# Altium schematic symbol library NUCLEOG431RB-Custom-IN-A2212.SchLib: 66 symbols (part 1 of 2)
Pins are listed as number, name and electrical type; pins without a type are passive.

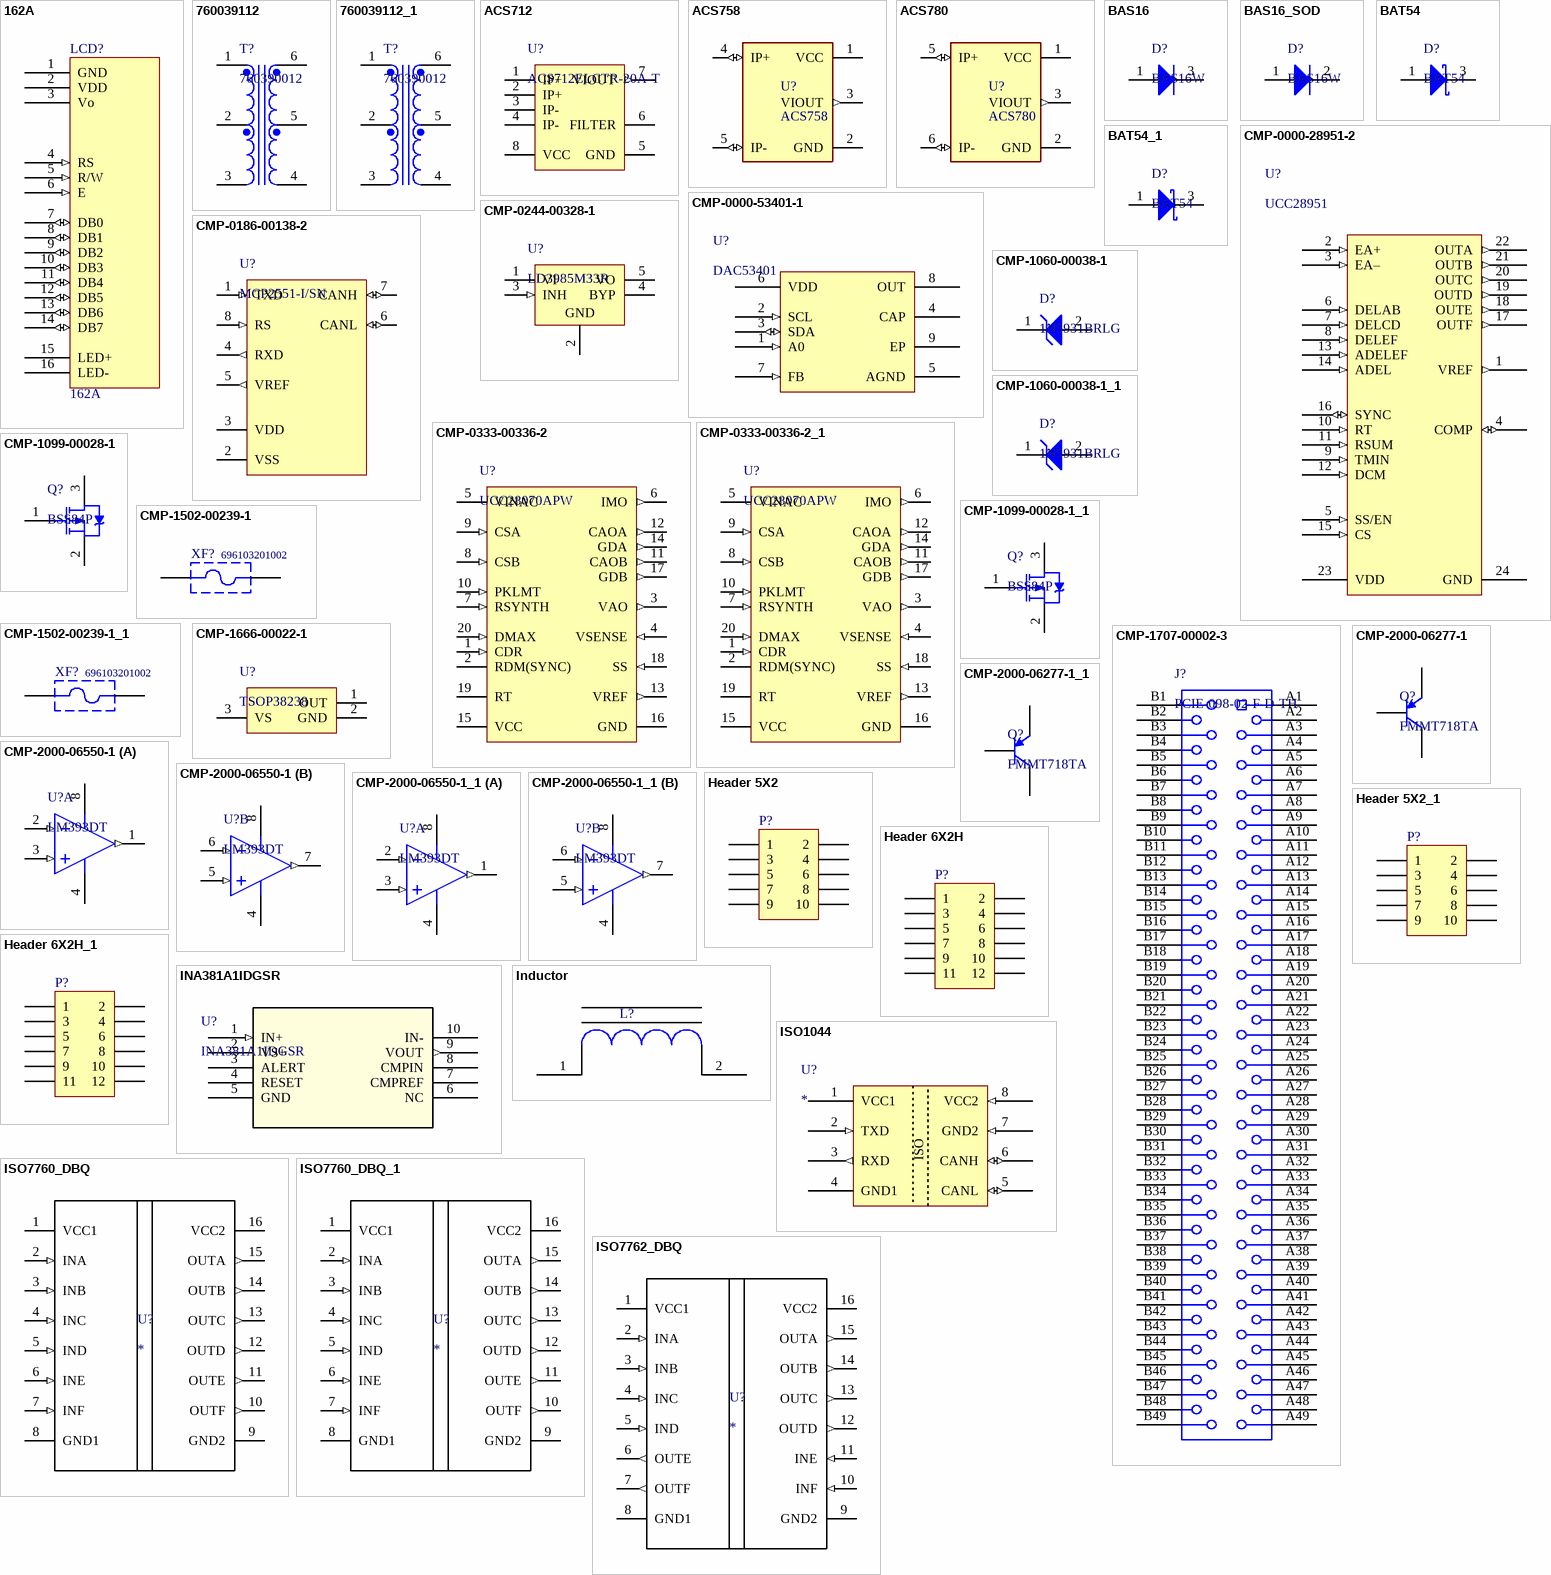
[diagram p0: symbols 162A to ISO7762_DBQ]

## 162A
designator LCD?
16 char * 2 line LCD character display with b/light
footprint 162A
pins: 1 GND (power) "VSS - 0V", 2 VDD (power) "VDD - 5V", 3 Vo (hiz) "Input Voltage For LCD", 4 RS (in) "H = Data Signal, L = Instrunction Signal", 5 R/W (in) "H = Read Mode, L = Write Mode", 6 E (in) "Chip Enable (H, H->L)", 7 DB0 (io) "Chip Enable (H, H->L)", 8 DB1 (io) "Chip Enable (H, H->L)", 9 DB2 (io) "Chip Enable (H, H->L)", 10 DB3 (io) "Chip Enable (H, H->L)", 11 DB4 (io) "Chip Enable (H, H->L)", 12 DB5 (io) "Chip Enable (H, H->L)", 13 DB6 (io) "Chip Enable (H, H->L)", 14 DB7 (io) "Chip Enable (H, H->L)", 15 LED+ (power) "LED Backlight +", 16 LED- (power) "LED Backlight -"

## 760039112
designator T?, comment 760390012
Transformer, 150 mA, -40 to 125 degC, 6-Pin SMD, RoHS, Tape and Reel; Manufacturer: Wuerth Elektronik; Mounting Technology: SurfaceMount; Manufacturer URL: https://www.we-online.com/; Datasheet Version: Rev. 6C, 06/2013; Datasheet URL: https://datasheet.ciiva.com/12335/760390012-221167-12335394.pdf; Package Description: 6-Pin Surface Mount Device, Body 7.14 x 6.73 mm, Pitch 2.54 mm; Package Reference: 7060390012-6
footprint WE-760390012-6_V (SMD, 6-Leads, Body 7.14x6.73mm, Pitch 2.54mm)
pins: 1, 2, 3, 4, 5, 6

## 760039112_1
designator T?, comment 760390012
Transformer, 150 mA, -40 to 125 degC, 6-Pin SMD, RoHS, Tape and Reel; Manufacturer: Wuerth Elektronik; Mounting Technology: SurfaceMount; Manufacturer URL: https://www.we-online.com/; Datasheet Version: Rev. 6C, 06/2013; Datasheet URL: https://datasheet.ciiva.com/12335/760390012-221167-12335394.pdf; Package Description: 6-Pin Surface Mount Device, Body 7.14 x 6.73 mm, Pitch 2.54 mm; Package Reference: 7060390012-6
footprint WE-760390012-6_V (SMD, 6-Leads, Body 7.14x6.73mm, Pitch 2.54mm)
pins: 1, 2, 3, 4, 5, 6

## ACS712
designator U?, comment ACS712ELCTR-20A-T
Linear Current Sensor IC, 4.5 to 5.5 V Supply Voltage, 10 mA Supply Current, -40 to 85 degC, 8-Pin SOIC (LC), RoHS, Tape and Reel; Manufacturer: Allegro Microsystems; CLOAD: 10 nF Max.; ICC: 10 mA; F: 80 kHz; RLOAD: 4.7 kOhm Min.; Optimized Accuracy Range: +/- 20 A; TR: 3.5 us; Sensitivity Sens: 100 mV/A Typ.; Operating Temperature Range: -40 to 85 degC; ComponentLink2URL: http://www.allegromicro.com/~/media/Files/Datasheets/ACS712-Datasheet.ashx; ComponentLink1Description: Manufacturer URL; VCC: 4.5 to 5.5 V; Mounting Technology: Surface Mount; DatasheetVersion: Rev. 15; ComponentLink2Description: Datasheet; ComponentLink1URL: http://www.allegromicro.com/; PackageDescription: 8-Pin SOIC, Body 4.9 x 3.9 mm, Pitch 1.27 mm; PackageReference: LC-8; RoHS: TRUE; Packing: Tape and Reel; PartNumber: ACS712ELCTR-20A-T
pins: 1 IP+ "Terminals for current being sampled; fused internally", 2 IP+ "Terminals for current being sampled; fused internally", 3 IP- "Terminals for current being sampled; fused internally", 4 IP- "Terminals for current being sampled; fused internally", 5 GND (power) "Signal ground terminal", 6 FILTER "Terminal for external capacitor that sets bandwidth", 7 VIOUT (out) "Analog output signal", 8 VCC (power) "Device power supply terminal"

## ACS758
designator U?
Current Sensor 50A 1 Channel Hall Effect, Open Loop Unidirectional 5-CB Formed Leads, PFF; MF: Allegro MicroSystems LLC; Package: 5-CB-5 Allegro MicroSystems LLC; MP: ACS758; Availability: Unavailable; Price: None; Value: *; SnapEDA_Link: https://www.snapeda.com/parts/ACS758/Allegro%20MicroSystems%20LLC/view-part/226237/?ref=snap
footprint XDCR_ACS758
pins: 1 VCC (power), 2 GND (power), 3 VIOUT (out), 4 IP+ (io), 5 IP- (io)

## ACS780
designator U?
Current Sensor 50A 1 Channel Hall Effect, Open Loop Unidirectional 5-CB Formed Leads, PFF; MP: ACS758; MF: Allegro MicroSystems LLC; Package: 5-CB-5 Allegro MicroSystems LLC; Availability: Unavailable; Price: None; Value: *; SnapEDA_Link: https://www.snapeda.com/parts/ACS758/Allegro%20MicroSystems%20LLC/view-part/226237/?ref=snap
footprint *XDCR_ACS781LLRTR-100U-T
pins: 1 VCC (power), 2 GND (power), 3 VIOUT (out), 5 IP+ (io), 6 IP- (io)

## BAS16
designator D?, comment BAS16W
Silicon Switching Diode, SOT323, Reel, Green; Manufacturer: Infineon; IR (max): 100Â nA; Configuration: Single; VBR (min): 85Â V; VR (max): 80Â V; trr (max): 4Â ns; Green: TRUE; VF (max): 1.25Â V; IF (max): 250Â mA; Mounting Technology: Surface Mount; PackageReference: SOT323; ComponentLink2URL: http://www.infineon.com/dgdl/bas16series.pdf?folderId=db3a30431400ef6801141b5844e103ea&fileId=db3a30431400ef6801141b93811b03ff; Halogen-free: TRUE; ComponentLink2Description: Datasheet; PartNumber: BAS16W; ComponentLink1Description: Manufacturer URL; ComponentLink3URL: http://www.infineon.com/dgdl/SOT323-Package_Overview.pdf?folderId=db3a30431936bc4b0119533e1dcb3c92&fileId=db3a30431936bc4b011953495f283cb1; ComponentLink1URL: http://www.infineon.com/; PackageDescription: 3-Pin Small Outline Transistor Package, 1.25 x 2 mm Body, 0.65 mm Pitch; ComponentLink3Description: Package Specification
footprint SOT95P278X110-3N (SOT23, 3-Leads, Body 2.90x2.78mm, Pitch 0.95mm, IPC Medium Density)
pins: 1 A, 3 K

## BAS16_SOD
designator D?, comment BAS16W
Silicon Switching Diode, SOT323, Reel, Green; Manufacturer: Infineon; IR (max): 100Â nA; Configuration: Single; VBR (min): 85Â V; VR (max): 80Â V; trr (max): 4Â ns; Green: TRUE; VF (max): 1.25Â V; IF (max): 250Â mA; Mounting Technology: Surface Mount; PackageReference: SOT323; ComponentLink2URL: http://www.infineon.com/dgdl/bas16series.pdf?folderId=db3a30431400ef6801141b5844e103ea&fileId=db3a30431400ef6801141b93811b03ff; Halogen-free: TRUE; ComponentLink2Description: Datasheet; PartNumber: BAS16W; ComponentLink1Description: Manufacturer URL; ComponentLink3URL: http://www.infineon.com/dgdl/SOT323-Package_Overview.pdf?folderId=db3a30431936bc4b0119533e1dcb3c92&fileId=db3a30431936bc4b011953495f283cb1; ComponentLink1URL: http://www.infineon.com/; PackageDescription: 3-Pin Small Outline Transistor Package, 1.25 x 2 mm Body, 0.65 mm Pitch; ComponentLink3Description: Package Specification
footprint SODFL250X110-2N (SODFL, 2-Leads, Body 1.30x2.50mm, IPC Medium Density)
pins: 1 A, 2 K

## BAT54
designator D?
Silicon Switching Diode, SOT323, Reel, Green; PartNumber: BAS16W; Manufacturer: Infineon; IR (max): 100Â nA; Configuration: Single; VBR (min): 85Â V; VR (max): 80Â V; trr (max): 4Â ns; Green: TRUE; VF (max): 1.25Â V; IF (max): 250Â mA; Mounting Technology: Surface Mount; PackageReference: SOT323; ComponentLink2URL: http://www.infineon.com/dgdl/bas16series.pdf?folderId=db3a30431400ef6801141b5844e103ea&fileId=db3a30431400ef6801141b93811b03ff; Halogen-free: TRUE; ComponentLink2Description: Datasheet; ComponentLink1Description: Manufacturer URL; ComponentLink3URL: http://www.infineon.com/dgdl/SOT323-Package_Overview.pdf?folderId=db3a30431936bc4b0119533e1dcb3c92&fileId=db3a30431936bc4b011953495f283cb1; ComponentLink1URL: http://www.infineon.com/; PackageDescription: 3-Pin Small Outline Transistor Package, 1.25 x 2 mm Body, 0.65 mm Pitch; ComponentLink3Description: Package Specification
footprint SOT95P278X110-3N (SOT23, 3-Leads, Body 2.90x2.78mm, Pitch 0.95mm, IPC Medium Density)
pins: 1 A, 3 K

## BAT54_1
designator D?, comment BAT54
Silicon Switching Diode, SOT323, Reel, Green; PartNumber: BAS16W; Manufacturer: Infineon; IR (max): 100Â nA; Configuration: Single; VBR (min): 85Â V; VR (max): 80Â V; trr (max): 4Â ns; Green: TRUE; VF (max): 1.25Â V; IF (max): 250Â mA; Mounting Technology: Surface Mount; PackageReference: SOT323; ComponentLink2URL: http://www.infineon.com/dgdl/bas16series.pdf?folderId=db3a30431400ef6801141b5844e103ea&fileId=db3a30431400ef6801141b93811b03ff; Halogen-free: TRUE; ComponentLink2Description: Datasheet; ComponentLink1Description: Manufacturer URL; ComponentLink3URL: http://www.infineon.com/dgdl/SOT323-Package_Overview.pdf?folderId=db3a30431936bc4b0119533e1dcb3c92&fileId=db3a30431936bc4b011953495f283cb1; ComponentLink1URL: http://www.infineon.com/; PackageDescription: 3-Pin Small Outline Transistor Package, 1.25 x 2 mm Body, 0.65 mm Pitch; ComponentLink3Description: Package Specification
footprint SOT95P278X110-3N (SOT23, 3-Leads, Body 2.90x2.78mm, Pitch 0.95mm, IPC Medium Density)
pins: 1 A, 3 K

## CMP-0000-28951-2
designator U?, comment UCC28951
UCC28951 Phase-Shifted Full-Bridge Controller / for Wide Input-Voltage Range Applications; ComponentLink1Description: Datasheet; ComponentLink1URL: https://www.ti.com/lit/ds/symlink/ucc28951.pdf?ts=1588485726454
footprint TSOP65P640X120_HS-25N (TSOP, 24-Leads, Body 7.80x4.40mm, Pitch 0.65mm, Thermal Pad 5.00x2.00mm, IPC Medium Density)
pins: 1 VREF (out), 2 EA+ (in), 3 EA– (in), 4 COMP (io), 5 SS/EN (in), 6 DELAB (in), 7 DELCD (in), 8 DELEF (in), 9 TMIN (in), 10 RT (in), 11 RSUM (in), 12 DCM (in), 13 ADELEF (in), 14 ADEL (in), 15 CS (in), 16 SYNC (io), 17 OUTF (out), 18 OUTE (out), 19 OUTD (out), 20 OUTC (out), 21 OUTB (out), 22 OUTA (out), 23 VDD (power), 24 GND (power)

## CMP-0000-53401-1
designator U?, comment DAC53401
DACx3401 10-Bit and 8-Bit, Voltage-Output Digital-to-Analog Converters With Nonvolatile / Memory and PMBus™ Compatible I2C Interface
footprint SON50P200X80_HS-9N (SON, 8-Leads, Body 2.00x2.00mm, Pitch 0.50mm, Thermal Pad 1.61x0.89mm, IPC Medium Density)
pins: 1 A0 (in), 2 SCL (in), 3 SDA (io), 4 CAP, 5 AGND, 6 VDD, 7 FB (in), 8 OUT, 9 EP

## CMP-0186-00138-2
designator U?, comment MCP2551-I/SN
High-Speed CAN Transceiver, 8-Pin SOIC, Industrial Temperature; Code_JEDEC: MS-012; ComponentLink3URL: http://www.microchip.com/stellent/groups/techpub_sg/documents/packagingspec/en012702.pdf; DatasheetVersion: revF, Jul-2010; PackageVersion: revBB, Aug-2009; PackageDescription: 8-Lead Plastic Small Outline (SN) - Narrow, 3.90mm Body [SOIC]; ComponentLink1URL: http://www.microchip.com/; ComponentLink3Description: Package Specification; ComponentLink2Description: Datasheet; Code_IPC: SOIC127P600-8; ComponentLink1Description: Manufacturer URL; PackageReference: SOIC-SN8; ComponentLink2URL: http://ww1.microchip.com/downloads/en/DeviceDoc/21667F.pdf; RevisionNote: URLs added. DatasheetVersion updated.
footprint SOIC127P570X175_HS-9N - No Thermal (SOIC, 8-Leads, Body 4.91x3.90mm, Pitch 1.27mm, Thermal Pad 3.00x3.00mm, IPC Medium Density)
pins: 1 TXD (in), 2 VSS (power), 3 VDD (power), 4 RXD (out), 5 VREF (out), 6 CANL (io), 7 CANH (io), 8 RS (in)

## CMP-0244-00328-1
designator U?, comment LD3985M33R
150mA, Ultra-Low Drop Low Noise BiCMOS Voltage Regulators Low ESR Capacitors Compatible, 3.3V, 5-Pin SOT23-5L; ComponentLink1Description: Manufacturer URL; ComponentLink2URL: http://www.st.com/internet/com/TECHNICAL_RESOURCES/TECHNICAL_LITERATURE/DATASHEET/CD00003395.pdf; PackageReference: SOT23-5L; ComponentLink1URL: http://www.st.com; ComponentLink2Description: Datasheet; PackageVersion: 1/01/2008; PackageDescription: 5-Pin SOT-23 Package, 2.9 x 1.6 mm Body, 0.95 mm Pitch, 2.8 mm Lead Span; DatasheetVersion: 3/01/2011
footprint SOT95P278X110-5N (SOT23, 5-Leads, Body 2.90x2.78mm, Pitch 0.95mm, IPC Medium Density)
pins: 1 VI (power), 2 GND (power), 3 INH (in), 4 BYP, 5 VO (power)

## CMP-0333-00336-2
designator U?, comment UCC28070APW
Two-Phase Interleaved CCM PFC Controller with Extended Frequency Range (10 kHz to 300 kHz), 21 V, 20 mA Startup Current, -40 to 125 degC, 20-pin TSSOP (PW), Green (RoHS & no Sb/Br); Manufacturer: Texas Instruments; UVLO Thresholds On/Off(V): 10.2/9.2; Practical Operating Frequency(Max)(MHz): 0.3; Vref(V): 6; Average Current Mode: TRUE; Operating Supply(Max)(V): 21; Duty Cycle(Max)(%): 99; Rating: Catalog; Vref tol(%): 3; Operating Supply Current(mA): 20; PackageReference: PW0020A; PartNumber: UCC28070APW; ComponentLink1URL: http://www.ti.com/general/docs/lit/getliterature.tsp?genericPartNumber=UCC28070A&fileType=pdf; Eco-Plan: Green (RoHS & no Sb/Br); Mounting Technology: Surface Mount; PackageVersion: revG, Feb-2011; ComponentLink1Description: Datasheet; Interleaved: TRUE; Code_JEDEC: MO-153; > 750W Applications: TRUE; PackageDescription: 20-Pin Plastic Thin Small Outline Package 6.5 x 4.4 mm Body ,0.65 mm Pitch; Startup Current(mA): 20; OVP: TRUE; DatasheetVersion: SLUSAW0
footprint TSOP65P640X120_HS-21N (TSOP, 20-Leads, Body 6.50x4.40mm, Pitch 0.65mm, Thermal Pad 5.00x2.00mm, IPC Medium Density)
pins: 1 CDR (in) "Dither Rate Capacitor. Frequency-dithering timing pin.An external capacitor to GND programs the rate fo oscillator dither.Connect the CDR pin to the VREF pin to disable dithering.", 2 RDM(SYNC) "Dither Magnitude Resistor. Frequency-dithering magnitude and external synchronization pin. An external resistor to GND programs the magnitude of oscillator frequency dither.When frequency dithering is disabled (CDR > 5 (See Datasheet)", 3 VAO (out) "Voltage Amplifier Output. Output of transconductance voltage error amplifier. Internally connected to Multiplier input and Zero-Power comparator. Connect the voltage regulation loop compensation components between this pin (See Datasheet)", 4 VSENSE (in) "Output Voltage Sense. Internally connected to the inverting input of the transconductance voltage error amplifier in addition to the positive terminal of the Current Synthesis difference amplifer.Also connected to the (See Datasheet)", 5 VINAC (power) "Scaled AC Line Input Voltage. Internally connected to the Multiplier and negative terminal of the Current Synthesis difference amplifier. Connect a resistor-divider network between VIN, VINAC, and GND identical to the PFC (See Datasheet)", 6 IMO (out) "Multiplier Current Output. Connect a resistor between this pin and GND to set the multiplier gain.", 7 RSYNTH (in) "Current Synthesis Down-Slope Programming. Connect a resistor between this pin and GND to set the magnitude of the current synthesizer down-slope. Connecting RSYNTH to VREF will disable current synthesis and connect CSA and (See Datasheet)", 8 CSB (in) "Phase B Current Sense Input During the on-time of GDB,CSB is internally connected to the inverting input of Phase B'S current amplifier through the current synthesis stage.", 9 CSA (in) "Phase A Current Sense Input During the on-time of GDA,CSA is internally connected to the inverting input of Phase A'S current amplifier through the current synthesis stage.", 10 PKLMT (in) "Peak Current Limit Programming. Connect a resistor-divider network between VREF and this pin to set the voltage threshold of the cycle-by-cycle peak current limiting comparators. Allows adjustment for desired deltaILB.", 11 CAOB (out) "Phase B Current Amplifier Output. Output of phase B’s transconductance current amplifier.Internally connected to the inverting input of phase B's PWM comparator for trailing-edge modulation .Connect the current regulation (See Datasheet)", 12 CAOA (out) "Phase A Current Amplifier Output. Output of phase A’s transconductance current amplifier.Internally connected to the inverting input of phase A's PWM comparator for trailing-edge modulation .Connect the current regulation (See Datasheet)", 13 VREF (out) "6-V Reference Voltage and Internal Bias Voltage.Connect a 0.1-uF ceramic bypass capacitor as close as possible to this pin and GND.", 14 GDA (out) "Phase A’s Gate Drive. This limited-current output is intended to connect to a separate gate-drive  device suitable for driving the Phase A switching component(s). The output voltage is typically clamped to 13.5 V.", 15 VCC (power) "Bias Voltage Input. Connect a 0.1-uF ceramic bypass capacitor as close as possible to this pin and GND.", 16 GND (power) "Device Ground Reference. Connect all compensation and programming resistor and capacitor networks to this pin. Connect this pin to the system through a separate trace for high-current noise isolation.", 17 GDB (out) "Phase B’s Gate Drive. This limited-current output is intended to connect to a separate gate- drivedevice suitable for driving the Phase B switching component(s). The output voltage is typically clamped to 13.5 V.", 18 SS (in) "Soft-Start and External Fault Interface. Connect a capacitor to GND on this pin to set the softstart slew rate based on an internally-fixed 10-uA current source. The regulation reference voltage for VSENSE is clamped to VSS (See Datasheet)", 19 RT "Timing Resistor.Oscillator frequency programming pin. A resistor to GND sets the running frequency of the internal oscillator.", 20 DMAX (in) "Maximum Duty-Cycle Resistor.Maximum PWM duty-cycle programming pin.A resister to GND sets the PWM maximum duty-cycle based on the ratio of RDMX/RRT."

## CMP-0333-00336-2_1
designator U?, comment UCC28070APW
Two-Phase Interleaved CCM PFC Controller with Extended Frequency Range (10 kHz to 300 kHz), 21 V, 20 mA Startup Current, -40 to 125 degC, 20-pin TSSOP (PW), Green (RoHS & no Sb/Br); Manufacturer: Texas Instruments; UVLO Thresholds On/Off(V): 10.2/9.2; Practical Operating Frequency(Max)(MHz): 0.3; Vref(V): 6; Average Current Mode: TRUE; Operating Supply(Max)(V): 21; Duty Cycle(Max)(%): 99; Rating: Catalog; Vref tol(%): 3; Operating Supply Current(mA): 20; PackageReference: PW0020A; PartNumber: UCC28070APW; ComponentLink1URL: http://www.ti.com/general/docs/lit/getliterature.tsp?genericPartNumber=UCC28070A&fileType=pdf; Eco-Plan: Green (RoHS & no Sb/Br); Mounting Technology: Surface Mount; PackageVersion: revG, Feb-2011; ComponentLink1Description: Datasheet; Interleaved: TRUE; Code_JEDEC: MO-153; > 750W Applications: TRUE; PackageDescription: 20-Pin Plastic Thin Small Outline Package 6.5 x 4.4 mm Body ,0.65 mm Pitch; Startup Current(mA): 20; OVP: TRUE; DatasheetVersion: SLUSAW0
footprint TSOP65P640X120_HS-21N (TSOP, 20-Leads, Body 6.50x4.40mm, Pitch 0.65mm, Thermal Pad 5.00x2.00mm, IPC Medium Density)
pins: 1 CDR (in) "Dither Rate Capacitor. Frequency-dithering timing pin.An external capacitor to GND programs the rate fo oscillator dither.Connect the CDR pin to the VREF pin to disable dithering.", 2 RDM(SYNC) "Dither Magnitude Resistor. Frequency-dithering magnitude and external synchronization pin. An external resistor to GND programs the magnitude of oscillator frequency dither.When frequency dithering is disabled (CDR > 5 (See Datasheet)", 3 VAO (out) "Voltage Amplifier Output. Output of transconductance voltage error amplifier. Internally connected to Multiplier input and Zero-Power comparator. Connect the voltage regulation loop compensation components between this pin (See Datasheet)", 4 VSENSE (in) "Output Voltage Sense. Internally connected to the inverting input of the transconductance voltage error amplifier in addition to the positive terminal of the Current Synthesis difference amplifer.Also connected to the (See Datasheet)", 5 VINAC (power) "Scaled AC Line Input Voltage. Internally connected to the Multiplier and negative terminal of the Current Synthesis difference amplifier. Connect a resistor-divider network between VIN, VINAC, and GND identical to the PFC (See Datasheet)", 6 IMO (out) "Multiplier Current Output. Connect a resistor between this pin and GND to set the multiplier gain.", 7 RSYNTH (in) "Current Synthesis Down-Slope Programming. Connect a resistor between this pin and GND to set the magnitude of the current synthesizer down-slope. Connecting RSYNTH to VREF will disable current synthesis and connect CSA and (See Datasheet)", 8 CSB (in) "Phase B Current Sense Input During the on-time of GDB,CSB is internally connected to the inverting input of Phase B'S current amplifier through the current synthesis stage.", 9 CSA (in) "Phase A Current Sense Input During the on-time of GDA,CSA is internally connected to the inverting input of Phase A'S current amplifier through the current synthesis stage.", 10 PKLMT (in) "Peak Current Limit Programming. Connect a resistor-divider network between VREF and this pin to set the voltage threshold of the cycle-by-cycle peak current limiting comparators. Allows adjustment for desired deltaILB.", 11 CAOB (out) "Phase B Current Amplifier Output. Output of phase B’s transconductance current amplifier.Internally connected to the inverting input of phase B's PWM comparator for trailing-edge modulation .Connect the current regulation (See Datasheet)", 12 CAOA (out) "Phase A Current Amplifier Output. Output of phase A’s transconductance current amplifier.Internally connected to the inverting input of phase A's PWM comparator for trailing-edge modulation .Connect the current regulation (See Datasheet)", 13 VREF (out) "6-V Reference Voltage and Internal Bias Voltage.Connect a 0.1-uF ceramic bypass capacitor as close as possible to this pin and GND.", 14 GDA (out) "Phase A’s Gate Drive. This limited-current output is intended to connect to a separate gate-drive  device suitable for driving the Phase A switching component(s). The output voltage is typically clamped to 13.5 V.", 15 VCC (power) "Bias Voltage Input. Connect a 0.1-uF ceramic bypass capacitor as close as possible to this pin and GND.", 16 GND (power) "Device Ground Reference. Connect all compensation and programming resistor and capacitor networks to this pin. Connect this pin to the system through a separate trace for high-current noise isolation.", 17 GDB (out) "Phase B’s Gate Drive. This limited-current output is intended to connect to a separate gate- drivedevice suitable for driving the Phase B switching component(s). The output voltage is typically clamped to 13.5 V.", 18 SS (in) "Soft-Start and External Fault Interface. Connect a capacitor to GND on this pin to set the softstart slew rate based on an internally-fixed 10-uA current source. The regulation reference voltage for VSENSE is clamped to VSS (See Datasheet)", 19 RT "Timing Resistor.Oscillator frequency programming pin. A resistor to GND sets the running frequency of the internal oscillator.", 20 DMAX (in) "Maximum Duty-Cycle Resistor.Maximum PWM duty-cycle programming pin.A resister to GND sets the PWM maximum duty-cycle based on the ratio of RDMX/RRT."

## CMP-1060-00038-1
designator D?, comment 1N5931BRLG
3 W Zener Voltage Regulator, 2-Pin Axial_Lead, Pb-Free, Tape and Reel; Manufacturer: On Semiconductor; VZ Typ (V): 18; DatasheetVersion: Rev. 5; PackageVersion: Rev. U, 02/2005; ComponentLink1URL: http://www.onsemi.com/; PartNumber: 1N5931BRLG; ComponentLink3URL: http://www.onsemi.cn/pub_link/Collateral/59-10.PDF; RoHS: Pb-Free; Packing: Tape and Reel; ComponentLink3Description: Package Specification; ComponentLink1Description: Manufacturer URL; PackageReference: AXIAL_LEAD-2-59-10; PackageDescription: 2-Pin, Axial Lead, Diameter 2.35 mm; ComponentLink2URL: http://www.onsemi.cn/pub_link/Collateral/1N5913B-D.PDF; ComponentLink2Description: Datasheet; Mounting Technology: Through Hole
footprint ONSC-AXIAL_LEAD-2-59-10_P (AXIAL, 2-Leads, Diameter 2.35mm)
pins: 1 K, 2 A

## CMP-1060-00038-1_1
designator D?, comment 1N5931BRLG
3 W Zener Voltage Regulator, 2-Pin Axial_Lead, Pb-Free, Tape and Reel; Manufacturer: On Semiconductor; VZ Typ (V): 18; DatasheetVersion: Rev. 5; PackageVersion: Rev. U, 02/2005; ComponentLink1URL: http://www.onsemi.com/; PartNumber: 1N5931BRLG; ComponentLink3URL: http://www.onsemi.cn/pub_link/Collateral/59-10.PDF; RoHS: Pb-Free; Packing: Tape and Reel; ComponentLink3Description: Package Specification; ComponentLink1Description: Manufacturer URL; PackageReference: AXIAL_LEAD-2-59-10; PackageDescription: 2-Pin, Axial Lead, Diameter 2.35 mm; ComponentLink2URL: http://www.onsemi.cn/pub_link/Collateral/1N5913B-D.PDF; ComponentLink2Description: Datasheet; Mounting Technology: Through Hole
footprint ONSC-AXIAL_LEAD-2-59-10_P (AXIAL, 2-Leads, Diameter 2.35mm)
pins: 1 K, 2 A

## CMP-1099-00028-1
designator Q?, comment BSS84P
P-Channel SIPMOS Small-Signal-Transistor, -60 V VDS, -0.17 A ID, -55 to 150 degC, PG-SOT23, Reel, Green; Manufacturer: Infineon; VGS(th) (max): -2Â V; VGS(th) (min): -1Â V; VDS (max): -60Â V; Rth: 350Â K/W; Pto t (max): 0.36Â W; ID (max): -0.17Â A; IDpuls (max): -0.68Â A; RDS (on) (max) (@4.5V): 12,000Â mOhm; QG: 1Â nC; Green: TRUE; RDS (on) (max): 8,000Â mOhm; ComponentLink3URL: http://www.infineon.com/dgdl/SOT23-Package_Overview.pdf?folderId=db3a30431936bc4b0119532290053c66&fileId=db3a30431936bc4b0119533468123c85; ComponentLink3Description: Package Specification; Packing: Reel; PartNumber: BSS84P; ComponentLink2Description: Datasheet; Mounting Technology: Surface Mount; ComponentLink2URL: http://www.infineon.com/dgdl/BSS84P_Rev2.7%5B1%5D.pdf?folderId=db3a304314dca38901154a72e3951a65&fileId=db3a304330f68606013118ac7a9b4549; PackageReference: PG-SOT23; ComponentLink1URL: http://www.infineon.com/; PackageVersion: Apr-08; ComponentLink1Description: Manufacturer URL; PackageDescription: 3-Pin Small Outline Transistor Package, 2.9 x 1.3 mm Body, 0.95 mm Pitch; Halogen-free: TRUE; DatasheetVersion: Rev. 2.7
footprint SOT95P278X110-3N (SOT23, 3-Leads, Body 2.90x2.78mm, Pitch 0.95mm, IPC Medium Density)
pins: 1 GATE, 2 SOURCE, 3 DRAIN

## CMP-1099-00028-1_1
designator Q?, comment BSS84P
P-Channel SIPMOS Small-Signal-Transistor, -60 V VDS, -0.17 A ID, -55 to 150 degC, PG-SOT23, Reel, Green; Manufacturer: Infineon; VGS(th) (max): -2Â V; VGS(th) (min): -1Â V; VDS (max): -60Â V; Rth: 350Â K/W; Pto t (max): 0.36Â W; ID (max): -0.17Â A; IDpuls (max): -0.68Â A; RDS (on) (max) (@4.5V): 12,000Â mOhm; QG: 1Â nC; Green: TRUE; RDS (on) (max): 8,000Â mOhm; ComponentLink3URL: http://www.infineon.com/dgdl/SOT23-Package_Overview.pdf?folderId=db3a30431936bc4b0119532290053c66&fileId=db3a30431936bc4b0119533468123c85; ComponentLink3Description: Package Specification; Packing: Reel; PartNumber: BSS84P; ComponentLink2Description: Datasheet; Mounting Technology: Surface Mount; ComponentLink2URL: http://www.infineon.com/dgdl/BSS84P_Rev2.7%5B1%5D.pdf?folderId=db3a304314dca38901154a72e3951a65&fileId=db3a304330f68606013118ac7a9b4549; PackageReference: PG-SOT23; ComponentLink1URL: http://www.infineon.com/; PackageVersion: Apr-08; ComponentLink1Description: Manufacturer URL; PackageDescription: 3-Pin Small Outline Transistor Package, 2.9 x 1.3 mm Body, 0.95 mm Pitch; Halogen-free: TRUE; DatasheetVersion: Rev. 2.7
footprint SOT95P278X110-3N (SOT23, 3-Leads, Body 2.90x2.78mm, Pitch 0.95mm, IPC Medium Density)
pins: 1 GATE, 2 SOURCE, 3 DRAIN

## CMP-1502-00239-1
designator XF?, comment 696103201002
WR-FSH Fuse Holder Blocks Fuse Holder Blocks Clip Cover for PCB - THR Version; Manufacturer: Wurth Elektronik; Fuse Size: 5x20mm; Package Reference: 696103201002; Operating Temperature: -30to120degC; Part Number: 696103201002; Packaging: Box; Datasheet URL: https://katalog.we-online.de/em/datasheet/696103201002.pdf; Publisher: WurthElektronik; Mounting Technology: THR; Manufacturer URL: http://www.we-online.de
footprint 696103201002 (FUSEHOLDER BLOCKS - PCB - CLIP COVER - THR)
pins: 1, 2

## CMP-1502-00239-1_1
designator XF?, comment 696103201002
WR-FSH Fuse Holder Blocks Fuse Holder Blocks Clip Cover for PCB - THR Version; Manufacturer: Wurth Elektronik; Fuse Size: 5x20mm; Package Reference: 696103201002; Operating Temperature: -30to120degC; Part Number: 696103201002; Packaging: Box; Datasheet URL: https://katalog.we-online.de/em/datasheet/696103201002.pdf; Publisher: WurthElektronik; Mounting Technology: THR; Manufacturer URL: http://www.we-online.de
footprint 696103201002 (FUSEHOLDER BLOCKS - PCB - CLIP COVER - THR)
pins: 1, 2

## CMP-1666-00022-1
designator U?, comment TSOP38238
IR Receiver Modules for Remote Control System, 2.5 to 5.5 V, -25 to 85 degC, 3-Pin THD, RoHS, Bulk; Tolerance: 30ppm; ESR: 40 Ohm; Capacitance: 1.8E-11 f; Frequency: 24 MHz; Load Capacitance: 18 pF; DatasheetVersion: Rev. 1.5, 07/2016; REACH SVHC: No SVHC; Frequency Tolerance: 30ppm; ComponentLink2URL: http://www.vishay.com/docs/82491/tsop382.pdf; Mount: Surface Mount; Length: 0.197 inch; Min Operating Temperature: -20degC; Packaging: Tape and Reel; ComponentLink1URL: http://www.vishay.com/; Width: 0.126 inch; Height: 0.041 inch; PackageDescription: 3-Pin Through Hole Device, Body 5.00 x 4.80 mm, Pitch 2.54 mm; Max Operating Temperature: 70degC; Pins: 4; RoHSCompliant: True; Package Quantity: 1000; PackageReference: VISH-TSOP38238; ComponentLink2Description: Datasheet; ComponentLink1Description: Manufacturer URL; Resistance: 40 Ohm
footprint VISH-TSOP38238 (TH, 3-Leads, Body 5.00x4.80mm, Pitch 2.54mm)
pins: 1 OUT (power), 2 GND (power), 3 VS (power)

## CMP-1707-00002-3
designator J?, comment PCIE-098-02-F-D-TH
Female Header, Pitch 1 mm, 98 Positions, 4 Rows, Height 11 mm, Tail Length 2.31 mm, -55 to 125 degC, RoHS; ComponentLink1Description: Manufacturer URL; Pins: 98; Length: 56 mm; ComponentLink2URL: http://suddendocs.samtec.com/catalog_english/pcie.pdf; PackageDescription: Female Header, Pitch 1 mm, 98 Positions, 4 Rows, Height 11 mm, Tail Length 2.31 mm; Mounting Technology: Through Hole; Packaging: Rail/Tube; Min Operating Temperature: -55 degC; ComponentLink3Description: Package Specification; Max Operating Temperature: 125 degC; Height: 11 mm; RoHSCompliant: True; REACH SVHC: No SVHC; ComponentLink2Description: Datasheet; ComponentLink3URL: http://suddendocs.samtec.com/prints/pcie-xxx-02-x-d-th-footprint.pdf; PartNumber: PCIE-098-02-F-D-TH; Mount: Through Hole; ComponentLink1URL: http://www.samtec.com/; Width: 7.5 mm; Radiation Hardening: No; DatasheetVersion: Rev. 21JAN16
footprint SMTC-PCIE-098-02-F-D-TH_V (TH, 98-Leads, Body 56x8.61mm, Pitch 1mm)
footprint Edge
pins: A1, A2, A3, A4, A5, A6, A7, A8, A9, A10, A11, A12, A13, A14, A15, A16, A17, A18, A19, A20, A21, A22, A23, A24, A25, A26, A27, A28, A29, A30, A31, A32, A33, A34, A35, A36, A37, A38, A39, A40, A41, A42, A43, A44, A45, A46, A47, A48, A49, B1, B2, B3, B4, B5, B6, B7, B8, B9, B10, B11, B12, B13, B14, B15, B16, B17, B18, B19, B20, B21, B22, B23, B24, B25, B26, B27, B28, B29, B30, B31, B32, B33, B34, B35, B36, B37, B38, B39, B40, B41, B42, B43, B44, B45, B46, B47, B48, B49

## CMP-2000-06277-1
designator Q?, comment FMMT718TA
PNP Silicon Low Saturation Transistor, 20 V, -55 to 150 degC, 3-Pin SOT23, RoHS, Tape and Reel; Manufacturer: Diodes Inc; Current Ic Continuous a Max: 1.5A; DC Current Gain hFE: 475; Current Ic hFE: 100mA; No. of Pins: 3; Turn On Time: 40ns; Voltage Vcbo: 20V; SVHC: NoSVHC(18-Jun-2012); Reel Quantity: 3000; Transistor Case Style: SOT-23; No. of Transistors: 1; SMD Marking: 718; Collector Emitter Voltage Vces: 220mV; Turn Off Time: 670ns; Power Dissipation Pd: 625mW; Transition Frequency Typ ft: 180MHz; Device Marking: MT718; Hfe Min: 300; Gain Bandwidth ft Min: 150MHz; Datasheet URL: http://www.diodes.com/_files/datasheets/FMMT718.pdf; Datasheet Version: Rev. 4-2, 10/2012; Termination Type: SMD; Package Description: 3-Pin Small Outline Transistor, Body 2.9 x 1.3 mm, Pitch 0.96 mm; Manufacturer URL: http://www.diodes.com/; Package Reference: SOT23-3; Package / Case: SOT-23; Continuous Collector Current Ic Max: 1.5A; Collector Emitter Voltage V(br)ceo: 20V; Operating Temperature Range: -55°Cto+150°C; Mounting Technology: SurfaceMount; DC Collector Current: 1.5A; Gain Bandwidth ft Typ: 180MHz; Tape Width: 8mm; Power Dissipation Ptot Max: 625mW; Transistor Polarity: PNP
footprint DIOD-SOT23-3_D_V (SOT23, 3-Leads, Body 3x1.40mm, Pitch 0.95mm)
pins: 1 B, 2 E, 3 C

## CMP-2000-06277-1_1
designator Q?, comment FMMT718TA
PNP Silicon Low Saturation Transistor, 20 V, -55 to 150 degC, 3-Pin SOT23, RoHS, Tape and Reel; Manufacturer: Diodes Inc; Current Ic Continuous a Max: 1.5A; DC Current Gain hFE: 475; Current Ic hFE: 100mA; No. of Pins: 3; Turn On Time: 40ns; Voltage Vcbo: 20V; SVHC: NoSVHC(18-Jun-2012); Reel Quantity: 3000; Transistor Case Style: SOT-23; No. of Transistors: 1; SMD Marking: 718; Collector Emitter Voltage Vces: 220mV; Turn Off Time: 670ns; Power Dissipation Pd: 625mW; Transition Frequency Typ ft: 180MHz; Device Marking: MT718; Hfe Min: 300; Gain Bandwidth ft Min: 150MHz; Datasheet URL: http://www.diodes.com/_files/datasheets/FMMT718.pdf; Datasheet Version: Rev. 4-2, 10/2012; Termination Type: SMD; Package Description: 3-Pin Small Outline Transistor, Body 2.9 x 1.3 mm, Pitch 0.96 mm; Manufacturer URL: http://www.diodes.com/; Package Reference: SOT23-3; Package / Case: SOT-23; Continuous Collector Current Ic Max: 1.5A; Collector Emitter Voltage V(br)ceo: 20V; Operating Temperature Range: -55°Cto+150°C; Mounting Technology: SurfaceMount; DC Collector Current: 1.5A; Gain Bandwidth ft Typ: 180MHz; Tape Width: 8mm; Power Dissipation Ptot Max: 625mW; Transistor Polarity: PNP
footprint DIOD-SOT23-3_D_V (SOT23, 3-Leads, Body 3x1.40mm, Pitch 0.95mm)
pins: 1 B, 2 E, 3 C

## CMP-2000-06550-1
designator U?, comment LM393DT
Low-Power, Dual-Voltage Comparator, 2 to 36 V, 0 to 70 degC, 8-Pin SOIC (SO), RoHS, Tape and Reel; Manufacturer: STMicroelectronics; Voltage - Supply, Single/Dual (±): 2V~36V,±1V~18V; Current - Input Bias (Max): 0.25µA@5V; Number of Elements: 2; Current - Output (Typ): 18mA@5V; Other Names: 497-1593-2; Voltage - Input Offset (Max): 5mV@30V; Output Type: CMOS,DTL,ECL,MOS,Open-Collector,TTL; EDA / CAD Models: DownloadfromAcceleratedDesigns; Other Related Documents: LM393ViewAllSpecificationsLM393ViewAllSpecifications; Online Catalog: Comparators-2elements; Current - Quiescent (Max): 2.5mA; Standard Package: 2,500; Manufacturer URL: http://www.st.com/; Package Description: 8-Pin Small Outline Integrated Circuit, Body 4.9 x 3.9 mm, Pitch 1.27 mm; Packaging: Tape&Reel(TR); Datasheet Version: Rev. 15, 02/2016; Category: IntegratedCircuits(ICs); Operating Temperature: 0°C~70°C; Mounting Type: SurfaceMount; Supplier Device Package: 8-SO; Datasheet URL: http://www.st.com/content/ccc/resource/technical/document/datasheet/group1/b4/cc/cf/13/18/28/44/f5/CD00000465/files/CD00000465.pdf/jcr:content/translations/en.CD00000465.pdf; Family: Linear-Comparators; Mounting Technology: SurfaceMount; Type: GeneralPurpose; Package Reference: SO-8; Package / Case: 8-SOIC(0.154",3.90mmWidth)
footprint SOIC127P570X175_HS-9N - No Thermal (SOIC, 8-Leads, Body 4.91x3.90mm, Pitch 1.27mm, Thermal Pad 3.00x3.00mm, IPC Medium Density)
pins on every part: 4 VCC- (power), 8 VCC+ (power)
part A pins: 1 OUT1 (out), 2 IN1- (in), 3 IN1+ (in)
part B pins: 5 IN2+ (in), 6 IN2- (in), 7 OUT2 (out)

## CMP-2000-06550-1_1
designator U?, comment LM393DT
Low-Power, Dual-Voltage Comparator, 2 to 36 V, 0 to 70 degC, 8-Pin SOIC (SO), RoHS, Tape and Reel; Manufacturer: STMicroelectronics; Voltage - Supply, Single/Dual (±): 2V~36V,±1V~18V; Current - Input Bias (Max): 0.25µA@5V; Number of Elements: 2; Current - Output (Typ): 18mA@5V; Other Names: 497-1593-2; Voltage - Input Offset (Max): 5mV@30V; Output Type: CMOS,DTL,ECL,MOS,Open-Collector,TTL; EDA / CAD Models: DownloadfromAcceleratedDesigns; Other Related Documents: LM393ViewAllSpecificationsLM393ViewAllSpecifications; Online Catalog: Comparators-2elements; Current - Quiescent (Max): 2.5mA; Standard Package: 2,500; Manufacturer URL: http://www.st.com/; Package Description: 8-Pin Small Outline Integrated Circuit, Body 4.9 x 3.9 mm, Pitch 1.27 mm; Packaging: Tape&Reel(TR); Datasheet Version: Rev. 15, 02/2016; Category: IntegratedCircuits(ICs); Operating Temperature: 0°C~70°C; Mounting Type: SurfaceMount; Supplier Device Package: 8-SO; Datasheet URL: http://www.st.com/content/ccc/resource/technical/document/datasheet/group1/b4/cc/cf/13/18/28/44/f5/CD00000465/files/CD00000465.pdf/jcr:content/translations/en.CD00000465.pdf; Family: Linear-Comparators; Mounting Technology: SurfaceMount; Type: GeneralPurpose; Package Reference: SO-8; Package / Case: 8-SOIC(0.154",3.90mmWidth)
footprint SOIC127P570X175_HS-9N - No Thermal (SOIC, 8-Leads, Body 4.91x3.90mm, Pitch 1.27mm, Thermal Pad 3.00x3.00mm, IPC Medium Density)
pins on every part: 4 VCC- (power), 8 VCC+ (power)
part A pins: 1 OUT1 (out), 2 IN1- (in), 3 IN1+ (in)
part B pins: 5 IN2+ (in), 6 IN2- (in), 7 OUT2 (out)

## Header 5X2
designator P?
Header, 5-Pin, Dual row; LatestRevisionDate: 17-Jul-2002; LatestRevisionNote: Re-released for DXP Platform.; Publisher: Altium Limited
footprint Stackable_5_2 (Pin Header, pitch 2.54 mm, THT, Vertical, dual row, 10p)
pins: 1, 2, 3, 4, 5, 6, 7, 8, 9, 10

## Header 5X2_1
designator P?
Header, 5-Pin, Dual row; LatestRevisionDate: 17-Jul-2002; LatestRevisionNote: Re-released for DXP Platform.; Publisher: Altium Limited
footprint Stackable_5_2 (Pin Header, pitch 2.54 mm, THT, Vertical, dual row, 10p)
pins: 1, 2, 3, 4, 5, 6, 7, 8, 9, 10

## Header 6X2H
designator P?
Header, 6-Pin, Dual row, Right Angle; LatestRevisionDate: 17-Jul-2002; LatestRevisionNote: Re-released for DXP Platform.; Publisher: Altium Limited
footprint Stackable-20mm (Pin Header, pitch 2.54 mm, THT, Vertical, dual row, 12p)
pins: 1, 2, 3, 4, 5, 6, 7, 8, 9, 10, 11, 12

## Header 6X2H_1
designator P?
Header, 6-Pin, Dual row, Right Angle; LatestRevisionDate: 17-Jul-2002; LatestRevisionNote: Re-released for DXP Platform.; Publisher: Altium Limited
footprint 61301221121 (Pin Header, pitch 2.54 mm, THT, Vertical, dual row, 12p)
pins: 1, 2, 3, 4, 5, 6, 7, 8, 9, 10, 11, 12

## INA381A1IDGSR
designator U?
No Description Available; SourceLibrary: Texas_Instruments_2020-07-20; Built_By: EMA_Matt; Vendor: Texas Instruments; Datasheet: https://www.ti.com/lit/ds/symlink/ina381.pdf?ts=1595282869145&ref_url=https%253A%252F%252Fwww.ti.com%252Fstore%252Fti%252Fen%252Fp%252Fproduct%252F%253Fp%253DINA381A1IDGSR; Copyright: Copyright (C) 2018 Accelerated Designs. All rights reserved; Manufacturer_Part_Number: INA381A1IDGSR; RefDes: RefDes; Type: DEV
footprint TSSOP50P490X110-10N (TSSOP, 10-Leads, Body 3.00x3.00mm, Pitch 0.50mm, IPC Medium Density)
pins: 1 IN+ (in), 2 VS+, 3 ALERT, 4 RESET, 5 GND, 6 NC, 7 CMPREF, 8 CMPIN, 9 VOUT (out), 10 IN-

## Inductor
designator L?  (value not drawn)
footprint SRR1260
footprint Inductor 25mm
pins: 1, 2

## ISO1044
designator U?
Isolated FD CAN Transreciever
footprint SOIC127P570X175_HS-9N - No Thermal (SOIC, 8-Leads, Body 4.91x3.90mm, Pitch 1.27mm, Thermal Pad 3.00x3.00mm, IPC Medium Density)
pins: 1 VCC1 (power), 2 TXD (in), 3 RXD (out), 4 GND1 (power), 5 CANL (io), 6 CANH (io), 7 GND2 (in), 8 VCC2 (in)
text: ISO

## ISO7760_DBQ
designator U?
No Description Available; Manufacturer: Texas Instruments; PartNumber: ISO7760DBQR; RefDes: RefDes; Type: DEV; Value: Value; Copyright: Copyright (C) 2018 Accelerated Designs. All rights reserved
footprint TSOP65P640X120_HS-21N (TSOP, 20-Leads, Body 6.50x4.40mm, Pitch 0.65mm, Thermal Pad 5.00x2.00mm, IPC Medium Density)
pins: 1 VCC1 (power), 2 INA (in), 3 INB (in), 4 INC (in), 5 IND (in), 6 INE (in), 7 INF (in), 8 GND1 (power), 9 GND2 (power), 10 OUTF (out), 11 OUTE (out), 12 OUTD (out), 13 OUTC (out), 14 OUTB (out), 15 OUTA (out), 16 VCC2 (power)

## ISO7760_DBQ_1
designator U?
No Description Available; Manufacturer: Texas Instruments; PartNumber: ISO7760DBQR; RefDes: RefDes; Type: DEV; Value: Value; Copyright: Copyright (C) 2018 Accelerated Designs. All rights reserved
footprint TSOP65P640X120_HS-21N (TSOP, 20-Leads, Body 6.50x4.40mm, Pitch 0.65mm, Thermal Pad 5.00x2.00mm, IPC Medium Density)
pins: 1 VCC1 (power), 2 INA (in), 3 INB (in), 4 INC (in), 5 IND (in), 6 INE (in), 7 INF (in), 8 GND1 (power), 9 GND2 (power), 10 OUTF (out), 11 OUTE (out), 12 OUTD (out), 13 OUTC (out), 14 OUTB (out), 15 OUTA (out), 16 VCC2 (power)

## ISO7762_DBQ
designator U?
No Description Available; PartNumber: ISO7762DWR; Manufacturer: Texas Instruments; RefDes: RefDes; Type: DEV; Value: Value; Copyright: Copyright (C) 2018 Accelerated Designs. All rights reserved
footprint TSOP65P640X120_HS-21N (TSOP, 20-Leads, Body 6.50x4.40mm, Pitch 0.65mm, Thermal Pad 5.00x2.00mm, IPC Medium Density)
pins: 1 VCC1 (power), 2 INA (in), 3 INB (in), 4 INC (in), 5 IND (in), 6 OUTE (out), 7 OUTF (out), 8 GND1 (power), 9 GND2 (power), 10 INF (in), 11 INE (in), 12 OUTD (out), 13 OUTC (out), 14 OUTB (out), 15 OUTA (out), 16 VCC2 (power)

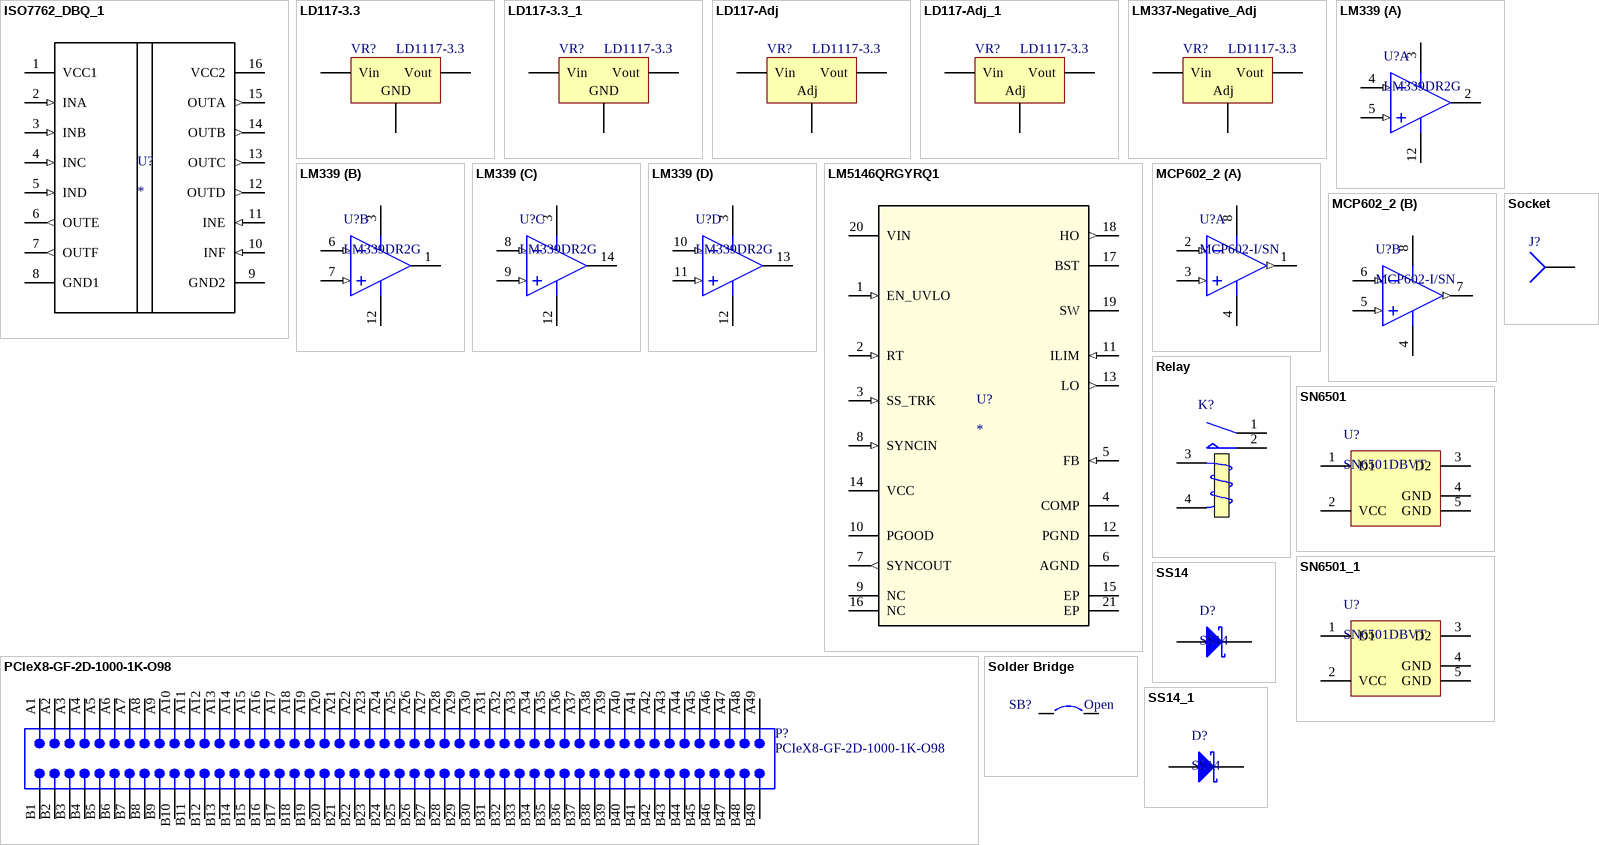
[diagram p1: symbols ISO7762_DBQ_1 to SS14_1]

## ISO7762_DBQ_1
designator U?
No Description Available; PartNumber: ISO7762DWR; Manufacturer: Texas Instruments; RefDes: RefDes; Type: DEV; Value: Value; Copyright: Copyright (C) 2018 Accelerated Designs. All rights reserved
footprint TSOP65P640X120_HS-21N (TSOP, 20-Leads, Body 6.50x4.40mm, Pitch 0.65mm, Thermal Pad 5.00x2.00mm, IPC Medium Density)
pins: 1 VCC1 (power), 2 INA (in), 3 INB (in), 4 INC (in), 5 IND (in), 6 OUTE (out), 7 OUTF (out), 8 GND1 (power), 9 GND2 (power), 10 INF (in), 11 INE (in), 12 OUTD (out), 13 OUTC (out), 14 OUTB (out), 15 OUTA (out), 16 VCC2 (power)

## LD117-3.3
designator VR?, comment LD1117-3.3
Voltage Regulator; Published: 24-Mar-1999; LatestRevisionDate: 29-May-2009; LatestRevisionNote: IPC-7351 Footprint Added.; PackageReference: D2PAK; Publisher: Altium Limited; PackageDescription: 3-Pin Transistor Outline Package 2.54 mm Pitch, 15.1 mm Lead Span
footprint SOT230P700X180-4N (SOT223, 4-Leads, Body 6.50x7.00mm (avg), Pitch 2.30mm, IPC Medium Density)
pins: 1 GND, 2 Vout, 3 Vin

## LD117-3.3_1
designator VR?, comment LD1117-3.3
Voltage Regulator; Published: 24-Mar-1999; LatestRevisionDate: 29-May-2009; LatestRevisionNote: IPC-7351 Footprint Added.; PackageReference: D2PAK; Publisher: Altium Limited; PackageDescription: 3-Pin Transistor Outline Package 2.54 mm Pitch, 15.1 mm Lead Span
footprint SOT230P700X180-4N (SOT223, 4-Leads, Body 6.50x7.00mm (avg), Pitch 2.30mm, IPC Medium Density)
pins: 1 GND, 2 Vout, 3 Vin

## LD117-Adj
designator VR?, comment LD1117-3.3
Voltage Regulator; Published: 24-Mar-1999; LatestRevisionDate: 29-May-2009; LatestRevisionNote: IPC-7351 Footprint Added.; PackageReference: D2PAK; Publisher: Altium Limited; PackageDescription: 3-Pin Transistor Outline Package 2.54 mm Pitch, 15.1 mm Lead Span
footprint SOT230P700X180-4N (SOT223, 4-Leads, Body 6.50x7.00mm (avg), Pitch 2.30mm, IPC Medium Density)
pins: 1 Adj, 2 Vout, 3 Vin

## LD117-Adj_1
designator VR?, comment LD1117-3.3
Voltage Regulator; Published: 24-Mar-1999; LatestRevisionDate: 29-May-2009; LatestRevisionNote: IPC-7351 Footprint Added.; PackageReference: D2PAK; Publisher: Altium Limited; PackageDescription: 3-Pin Transistor Outline Package 2.54 mm Pitch, 15.1 mm Lead Span
footprint SOT230P700X180-4N (SOT223, 4-Leads, Body 6.50x7.00mm (avg), Pitch 2.30mm, IPC Medium Density)
pins: 1 Adj, 2 Vout, 3 Vin

## LM337-Negative_Adj
designator VR?, comment LD1117-3.3
Voltage Regulator; Published: 24-Mar-1999; LatestRevisionDate: 29-May-2009; LatestRevisionNote: IPC-7351 Footprint Added.; PackageReference: D2PAK; Publisher: Altium Limited; PackageDescription: 3-Pin Transistor Outline Package 2.54 mm Pitch, 15.1 mm Lead Span
footprint SOT230P700X180-4N (SOT223, 4-Leads, Body 6.50x7.00mm (avg), Pitch 2.30mm, IPC Medium Density)
pins: 1 Adj, 2 Vin, 3 Vout

## LM339
designator U?, comment LM339DR2G
Single Supply Quad Comparators, 0 to 70 degC, 14-Pin SOIC, Pb-Free, Tape and Reel; Manufacturer: On Semiconductor; IO Typ (mA): 16; ComponentLink3URL: http://www.onsemi.com/pub_link/Collateral/751A-03.PDF; RoHS: TRUE; Packing: Tape and Reel; ComponentLink2Description: Datasheet; ComponentLink2URL: http://www.onsemi.com/pub_link/Collateral/LM339-D.PDF; ComponentLink1Description: Manufacturer URL; PackageVersion: Rev. K, 05/2011; DatasheetVersion: Rev. 20; PackageReference: SOIC-14-751A-03; ComponentLink1URL: http://www.onsemi.com/; PartNumber: LM339DR2G; PackageDescription: 14-Pin Small Outline Integrated Circuit, Body 8.65 x 3.9 mm, Pitch 1.27 mm; ComponentLink3Description: Package Specification; Mounting Technology: Surface Mount
footprint ONSC-SOIC-14-751A-03_V (SOIC, 14-Leads, Body 8.75x4mm, Pitch 1.27mm)
pins on every part: 3 VCC (power), 12 GND (power)
part A pins: 2 OUT1 (oc), 4 IN1- (in), 5 IN1+ (in)
part B pins: 1 OUT2 (oc), 6 IN2- (in), 7 IN2+ (in)
part C pins: 8 IN3- (in), 9 IN3+ (in), 14 OUT3 (oc)
part D pins: 10 IN4- (in), 11 IN4+ (in), 13 OUT4 (oc)

## LM5146QRGYRQ1
designator U?
Imported; Manufacturer: Texas Instruments; PartNumber: LM5146QRGYRQ1; RefDes: RefDes; Type: DEV; Value: Value; Manufacturer_Part_Number: LM5146QRGYRQ1; Manufacturer_Name: Texas Instruments
footprint QFN50P350X450X100_HS-21N (QFN, 20-Leads, Body 3.50x4.50mm, Pitch 1.50mm/0.50mm, Thermal Pad 1.70x2.70mm, IPC Medium Density)
pins: 1 EN_UVLO (in), 2 RT (in), 3 SS_TRK (in), 4 COMP, 5 FB (in), 6 AGND (power), 7 SYNCOUT (out), 8 SYNCIN (in), 9 NC, 10 PGOOD (oc), 11 ILIM (in), 12 PGND (power), 13 LO (out), 14 VCC (power), 15 EP (power), 16 NC, 17 BST, 18 HO (out), 19 SW (power), 20 VIN (power), 21 EP (power)

## MCP602_2
designator U?, comment MCP602-I/SN
2.7V to 6.0V Single Supply CMOS Operational Amplifier, 8-Pin SOIC, Industrial Temperature; ComponentLink1URL: http://www.microchip.com/; ComponentLink1Description: Manufacturer URL; RevisionNote: URLs added.; PackageReference: SOIC-SN8; ComponentLink2URL: http://ww1.microchip.com/downloads/en/DeviceDoc/21314g.pdf; ComponentLink3URL: http://www.microchip.com/stellent/groups/techpub_sg/documents/packagingspec/en012702.pdf; PackageDescription: 8-Lead Plastic Small Outline (SN) - Narrow, 3.90mm Body [SOIC]; DatasheetVersion: revG, Dec-2007; ComponentLink2Description: Datasheet; ComponentLink3Description: Package Specification; Code_IPC: SOIC127P600-8; Code_JEDEC: MS-012; PackageVersion: revBB, Aug-2009
footprint SOIC127P570X175_HS-9N - No Thermal (SOIC, 8-Leads, Body 4.91x3.90mm, Pitch 1.27mm, Thermal Pad 3.00x3.00mm, IPC Medium Density)
pins on every part: 4 VSS (power), 8 VDD (power)
part A pins: 1 VOUTA (out), 2 VINA- (in), 3 VINA+ (in)
part B pins: 5 VINB+ (in), 6 VINB- (in), 7 VOUTB (out)

## PCIeX8-GF-2D-1000-1K-O98
designator P?  (no BOM)
Golden finger, PCIeX8, Dual, Opposite, Pitch 1mm, 98-Position; Mating Connector: Molex-87715-9205; Package Version: rev2.0, Apr-2007; ClassName: Edge Connector; Package Reference: GF-2D-1000-1K-O98; Datasheet Version: rev2.0, Apr-2007; Publisher: Altium
footprint PCIeX8-GF-2D-1000-1K-O98 (Golden finger, PCIeX8, Dual, Opposite, Pitch 1mm, 98-Position)
pins: A1, A2, A3, A4, A5, A6, A7, A8, A9, A10, A11, A12, A13, A14, A15, A16, A17, A18, A19, A20, A21, A22, A23, A24, A25, A26, A27, A28, A29, A30, A31, A32, A33, A34, A35, A36, A37, A38, A39, A40, A41, A42, A43, A44, A45, A46, A47, A48, A49, B1, B2, B3, B4, B5, B6, B7, B8, B9, B10, B11, B12, B13, B14, B15, B16, B17, B18, B19, B20, B21, B22, B23, B24, B25, B26, B27, B28, B29, B30, B31, B32, B33, B34, B35, B36, B37, B38, B39, B40, B41, B42, B43, B44, B45, B46, B47, B48, B49

## Relay
designator K?
SPDT Relay; Published: 8-Jun-2000; LatestRevisionDate: 17-Jul-2002; LatestRevisionNote: Re-released for DXP Platform.; PackageReference: MODULE5B; Publisher: Altium Limited
footprint Relay_T9VV1K15-12S
pins: 1 COM, 2 NO, 3 T1, 4 T2

## SN6501
designator U?, comment SN6501DBVT
Transformer Driver for Isolated Power Supplies, 0.15 to 0.35 A, 3 to 5.5 V, -40 to 125 degC, 5-Pin SOT-23 (DBV), Green (RoHS & no Sb/Br), Tape and Reel; Manufacturer: TexasInstruments; Package Version: 4073253-4/N, 12/2014; Minimum Input Voltage: 3V; Switching Frequency: 300to620kHz; Output Voltage: 0to11V; Number of Outputs: 1; Maximum Input Voltage: 5.5V; Maximum Output Current: 0.35A; Type: Non-Inverting|Inverting|StepUp|StepDown; Package: 5SOT-23; Package URL: http://www.ti.com/lit/ml/mpds018l/mpds018l.pdf; Category: DCtoDCConverter; Package Reference: DBV5; Datasheet Version: Rev. G, 09/2014; Packaging: Tape&Reel; Operating Temperature: -40to125°C; Manufacturer URL: http://www.ti.com/; Mounting: SurfaceMount; Rad Hard: No; Package Description: 5-Pin Small Outline Transistor, Body 2.9 x 1.6 mm, Pitch 0.95 mm; Datasheet URL: http://www.ti.com/lit/ds/symlink/sn6501.pdf; Mounting Technology: SurfaceMount
footprint SOT95P278X110-5N (SOT23, 5-Leads, Body 2.90x2.78mm, Pitch 0.95mm, IPC Medium Density)
pins: 1 D1 (oc) "Open Drain output 1. Connect this pin to one end of the transformer primary side", 2 VCC (power) "Supply voltage input. Connect this pin to the center-tap of the transformer primary side. Buffer this voltage with a 1 uF to 10 uF ceramic capacitor", 3 D2 (oc) "Open Drain output 2. Connect this pin to the other end of the transformer primary side.", 4 GND (power) "Device ground. Connect this pin to board ground.", 5 GND (power) "Device ground. Connect this pin to board ground."

## SN6501_1
designator U?, comment SN6501DBVT
Transformer Driver for Isolated Power Supplies, 0.15 to 0.35 A, 3 to 5.5 V, -40 to 125 degC, 5-Pin SOT-23 (DBV), Green (RoHS & no Sb/Br), Tape and Reel; Manufacturer: TexasInstruments; Package Version: 4073253-4/N, 12/2014; Minimum Input Voltage: 3V; Switching Frequency: 300to620kHz; Output Voltage: 0to11V; Number of Outputs: 1; Maximum Input Voltage: 5.5V; Maximum Output Current: 0.35A; Type: Non-Inverting|Inverting|StepUp|StepDown; Package: 5SOT-23; Package URL: http://www.ti.com/lit/ml/mpds018l/mpds018l.pdf; Category: DCtoDCConverter; Package Reference: DBV5; Datasheet Version: Rev. G, 09/2014; Packaging: Tape&Reel; Operating Temperature: -40to125°C; Manufacturer URL: http://www.ti.com/; Mounting: SurfaceMount; Rad Hard: No; Package Description: 5-Pin Small Outline Transistor, Body 2.9 x 1.6 mm, Pitch 0.95 mm; Datasheet URL: http://www.ti.com/lit/ds/symlink/sn6501.pdf; Mounting Technology: SurfaceMount
footprint SOT95P278X110-5N (SOT23, 5-Leads, Body 2.90x2.78mm, Pitch 0.95mm, IPC Medium Density)
pins: 1 D1 (oc) "Open Drain output 1. Connect this pin to one end of the transformer primary side", 2 VCC (power) "Supply voltage input. Connect this pin to the center-tap of the transformer primary side. Buffer this voltage with a 1 uF to 10 uF ceramic capacitor", 3 D2 (oc) "Open Drain output 2. Connect this pin to the other end of the transformer primary side.", 4 GND (power) "Device ground. Connect this pin to board ground.", 5 GND (power) "Device ground. Connect this pin to board ground."

## Socket
designator J?
Socket; LatestRevisionDate: 17-Jul-2002; LatestRevisionNote: Re-released for DXP Platform.; Publisher: Altium Limited
footprint Mounting_hole_3mm
pins: 1